# EAGLE library part TPS54202 (library vreg-linear)
IC REG BUCK ADJ 2A
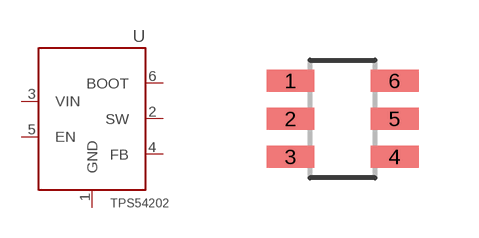
[diagram p12: symbol with the pads of SOT23-6; footprint SOT23-6]

Designator prefix U

## TPS54202 (DIGIKEY: 296-44151-1-ND; MFR: Texas Instruments; MPN: TPS54202DDCT; P1I: o)  [SOT23-6]
1  GND
2  SW
3  VIN
4  FB
5  EN
6  BOOT

## Footprint SOT23-6 (pad centres in mm)
SOT-23 - DBV 0.95 mm pitch
smd 1.2 x 0.55: 1 -1.427,0.95; 2 -1.427,0; 3 -1.427,-0.95; 4 1.173,-0.95; 5 1.173,0; 6 1.173,0.95